# Altium footprint library LED1608-0603.PcbLib: 1 footprints
Each footprint in its own frame and in the unit in brackets; x right, y up, seen from the top. Pads: shape width x height; smd on the part's side, far side on the other; paste and mask are expansions set on the pad; w line width, h text height; cw(c..) or ccw(c..) is an arc to the next point about the centre after c.
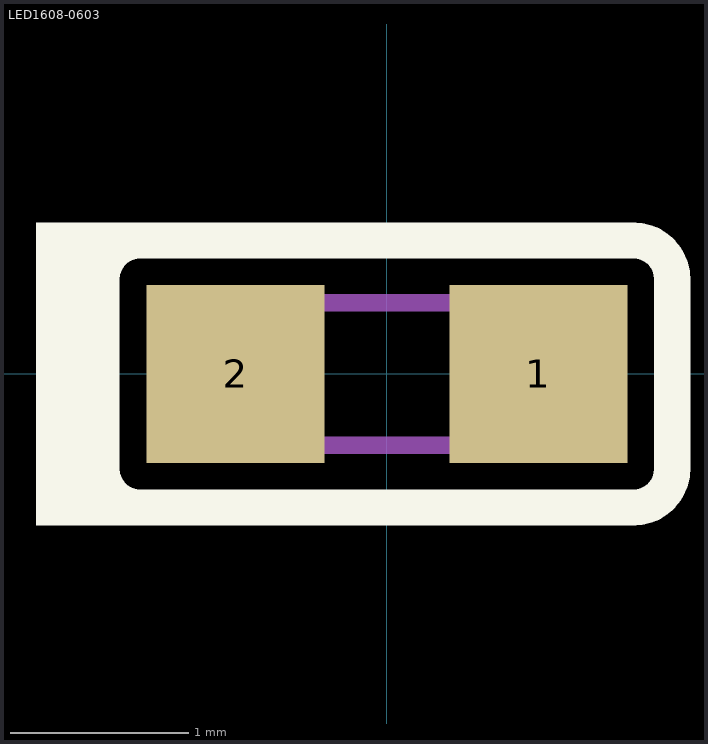
[diagram p0: the footprint, top view; thin cyan lines are the x and y axes]

## LED1608-0603 [mm]
pads (2):
  rect 1x1 smd paste+0 mask+0: 1(0.85,0) 2(-0.85,0)
Top Overlay:
  rectangle: -1.781,-0.851 -1.197,-0.686
  rectangle: -1.971,-0.851 -1.514,0.851
  rectangle: -1.781,0.665 -1.131,0.851
  lines w0.203: -1.602,-0.533 ccw(c-1.386,-0.533) -1.386,-0.749 1.386,-0.749 ccw(c1.386,-0.533) 1.602,-0.533 1.602,0.533 ccw(c1.386,0.533) 1.386,0.749 -1.386,0.749 ccw(c-1.386,0.533) -1.602,0.533 -1.602,-0.533
Mechanical 7:
  lines w0.1: -0.8,-0.4 0.8,-0.4 0.8,0.4 -0.8,0.4 -0.8,-0.4
3D body: height 0.46, standoff 0, extent -0.301,-0.464 0.493,0.402
3D body: height 0.38, standoff 0, extent -0.502,-0.533 0.668,0.533
3D body: height 0.38, standoff 0, extent -0.925,-0.535 -0.5,0.535
3D body: height 0.38, standoff 0, extent 0.664,-0.532 1.089,0.532